# Altium integrated library 10129380-905001BLF.IntLib: 1 symbol
Pins are listed as number, name and electrical type; pins without a type are passive.

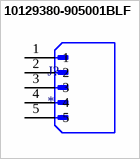
[diagram p0: symbol 10129380-905001BLF]

## 10129380-905001BLF
designator J?
MP: 10129380-905001BLF; Package: None; Price: None; Value: *; Availability: Unavailable
footprint AMPHENOL_10129380-905001BLF
pins: 1, 2, 3, 4, 5